# EAGLE library part ARDUINO_SHIELD (library Arduino_shield_break)
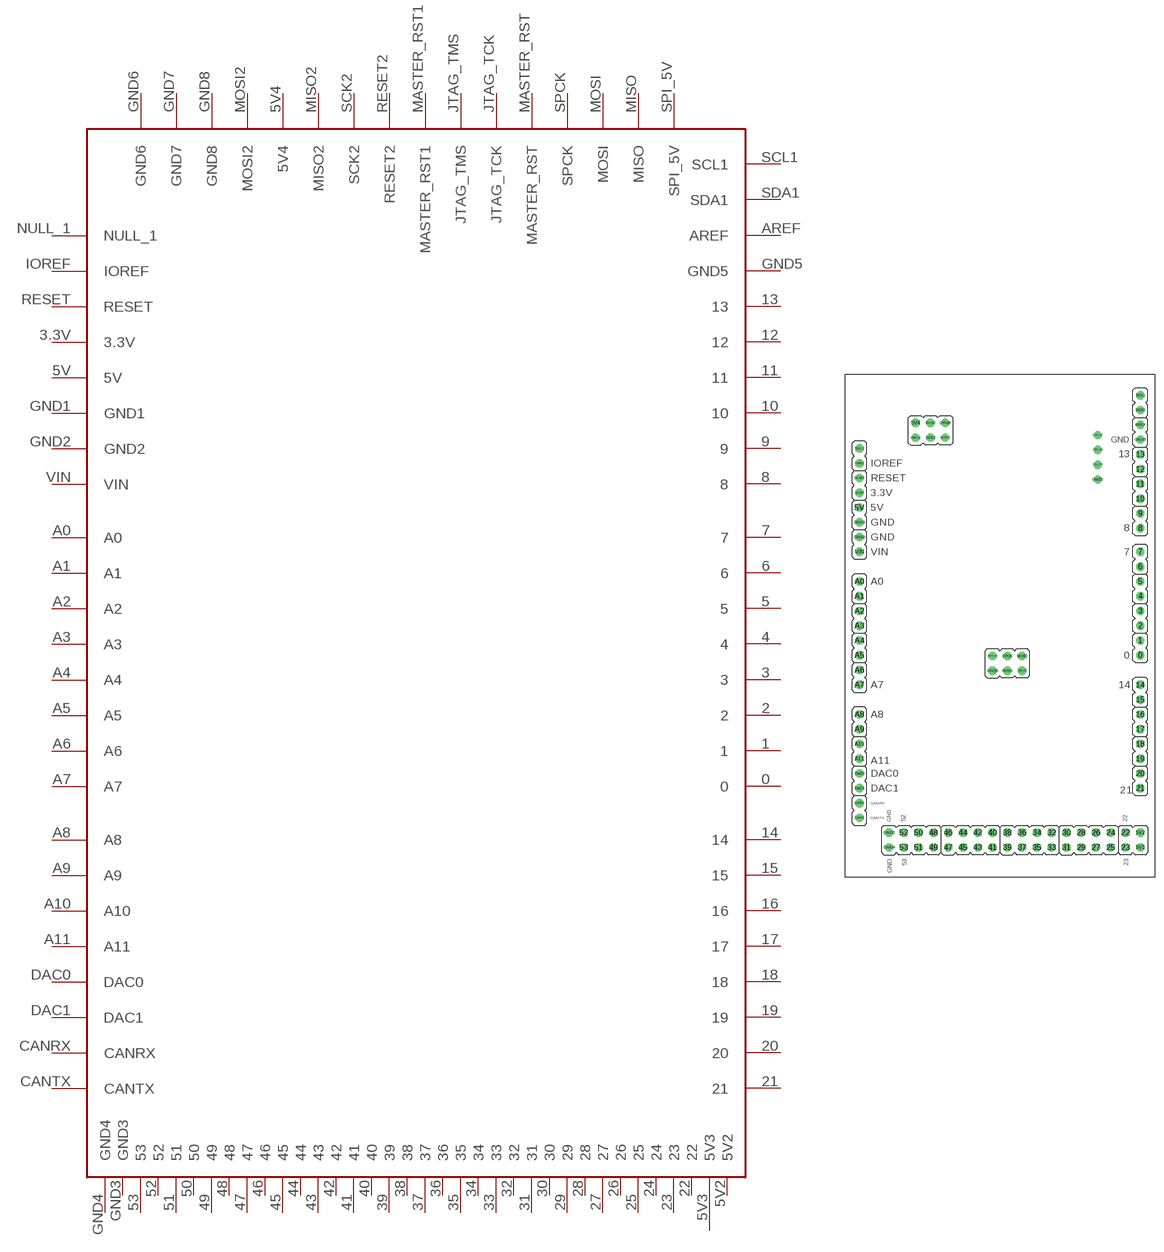
[diagram p0: symbol with the pads of ARDUINO_SHIELD; footprint ARDUINO_SHIELD]

Designator prefix U

## ARDUINO_SHIELD  [ARDUINO_SHIELD]
0  0
1  1
2  2
3  3
3.3V  3.3V
4  4
5  5
5V  5V
5V2  5V2
5V3  5V3
5V4  5V4
6  6
7  7
8  8
9  9
10  10
11  11
12  12
13  13
14  14
15  15
16  16
17  17
18  18
19  19
20  20
21  21
22  22
23  23
24  24
25  25
26  26
27  27
28  28
29  29
30  30
31  31
32  32
33  33
34  34
35  35
36  36
37  37
38  38
39  39
40  40
41  41
42  42
43  43
44  44
45  45
46  46
47  47
48  48
49  49
50  50
51  51
52  52
53  53
A0  A0
A1  A1
A2  A2
A3  A3
A4  A4
A5  A5
A6  A6
A7  A7
A8  A8
A9  A9
A10  A10
A11  A11
AREF  AREF
CANRX  CANRX
CANTX  CANTX
DAC0  DAC0
DAC1  DAC1
GND1  GND1
GND2  GND2
GND3  GND3
GND4  GND4
GND5  GND5
GND6  GND6
GND7  GND7
GND8  GND8
IOREF  IOREF
JTAG_TCK  JTAG_TCK
JTAG_TMS  JTAG_TMS
MASTER_RST  MASTER_RST
MASTER_RST1  MASTER_RST1
MISO  MISO
MISO2  MISO2
MOSI  MOSI
MOSI2  MOSI2
NULL_1  NULL_1
RESET  RESET
RESET2  RESET2
SCK2  SCK2
SCL1  SCL1
SDA1  SDA1
SPCK  SPCK
SPI_5V  SPI_5V
VIN  VIN

## Footprint ARDUINO_SHIELD (pad centres in mm)
drill 0.914 octagon: 0 50.8,35.56; 1 50.8,38.1; 2 50.8,40.64; 3 50.8,43.18; 3.3V 2.54,63.5; 4 50.8,45.72; 5 50.8,48.26; 5V 2.54,60.96; 5V2 50.8,5.08; 5V3 50.8,2.54; 5V4 12.192,75.514; 6 50.8,50.8; 7 50.8,53.34; 8 50.8,57.404; 9 50.8,59.944; 10 50.8,62.484; 11 50.8,65.024; 12 50.8,67.564; 13 50.8,70.104; 14 50.8,30.48; 15 50.8,27.94; 16 50.8,25.4; 17 50.8,22.86; 18 50.8,20.32; 19 50.8,17.78; 20 50.8,15.24; 21 50.8,12.7; 22 48.26,5.08; 23 48.26,2.54; 24 45.72,5.08; 25 45.72,2.54; 26 43.18,5.08; 27 43.18,2.54; 28 40.64,5.08; 29 40.64,2.54; 30 38.1,5.08; 31 38.1,2.54; 32 35.56,5.08; 33 35.56,2.54; 34 33.02,5.08; 35 33.02,2.54; 36 30.48,5.08; 37 30.48,2.54; 38 27.94,5.08; 39 27.94,2.54; 40 25.4,5.08; 41 25.4,2.54; 42 22.86,5.08; 43 22.86,2.54; 44 20.32,5.08; 45 20.32,2.54; 46 17.78,5.08; 47 17.78,2.54; 48 15.24,5.08; 49 15.24,2.54; 50 12.7,5.08; 51 12.7,2.54; 52 10.16,5.08; 53 10.16,2.54; A0 2.54,48.26; A1 2.54,45.72; A2 2.54,43.18; A3 2.54,40.64; A4 2.54,38.1; A5 2.54,35.56; A6 2.54,33.02; A7 2.54,30.48; A8 2.54,25.4; A9 2.54,22.86; A10 2.54,20.32; A11 2.54,17.78; AREF 50.8,75.184; CANRX 2.54,10.16; CANTX 2.54,7.62; DAC0 2.54,15.24; DAC1 2.54,12.7; GND1 2.54,58.42; GND2 2.54,55.88; GND3 7.62,5.08; GND4 7.62,2.54; GND5 50.8,72.644; GND6 25.4,32.893; GND7 43.485,65.786; GND8 17.272,75.514; IOREF 2.54,68.58; JTAG_TCK 43.485,68.326; JTAG_TMS 43.485,70.866; MASTER_RST 25.4,35.433; MASTER_RST1 43.485,73.406; MISO 30.48,35.433; MISO2 12.192,72.974; MOSI 27.94,32.893; MOSI2 14.732,75.514; NULL_1 2.54,71.12; RESET 2.54,66.04; RESET2 17.272,72.974; SCK2 14.732,72.974; SCL1 50.8,80.264; SDA1 50.8,77.724; SPCK 27.94,35.433; SPI_5V 30.48,32.893; VIN 2.54,53.34